# Altium schematic symbol library SCH - CONNECTORS - USB 2.0 TYPE A.SCHLIB: 1 symbol
Pins are listed as number, name and electrical type; pins without a type are passive.

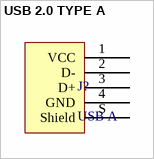
[diagram p0: symbol USB 2.0 TYPE A]

## USB 2.0 TYPE A
designator J?, comment USB A
pins: 1 VCC, 2 D-, 3 D+, 4 GND, S Shield